# EAGLE library part 74AHCT132PW,118 (library 74AHCT132PW_118)
74AHC(T)132 - Quad 2-input NAND Schmitt trigger@en-us Source: Datasheet <https://assets.nexperia.com/documents/data-sheet/74AHC_AHCT132.pdf>
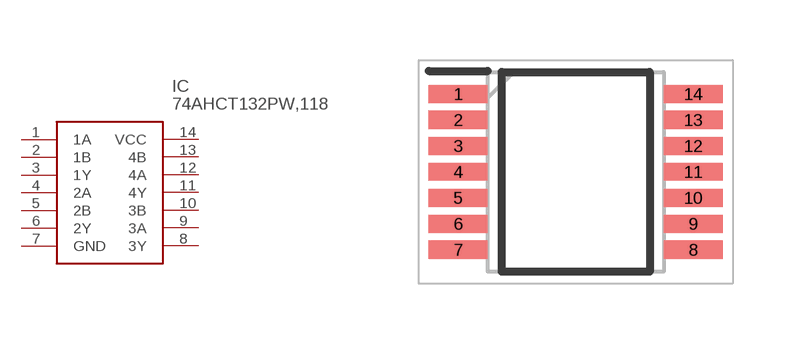
[diagram p0: symbol with the pads of SOP65P640X110-14N; footprint SOP65P640X110-14N]

Designator prefix IC

## 74AHCT132PW,118 (Description: 74AHC(T)132 - Quad 2-input NAND Schmitt trigger@en-us; Height: 1.1mm; Manufacturer_Name: Nexperia; Manufacturer_Part_Number: 74AHCT132PW,118; Mouser_Part_Number: 771-AHCT132PW118; Mouser_Price-Stock: https://www.mouser.co.uk/ProductDetail/Nexperia/74AHCT132PW118?qs=P62ublwmbi98EdtQFmm67Q%3D%3D)  [SOP65P640X110-14N]
1  1A
2  1B
3  1Y
4  2A
5  2B
6  2Y
7  GND
8  3Y
9  3A
10  3B
11  4Y
12  4A
13  4B
14  VCC

## Footprint SOP65P640X110-14N (pad centres in mm)
SOT402-1
smd 1.475 x 0.45: 1 -2.938,1.95; 2 -2.938,1.3; 3 -2.938,0.65; 4 -2.938,0; 5 -2.938,-0.65; 6 -2.938,-1.3; 7 -2.938,-1.95; 8 2.938,-1.95; 9 2.938,-1.3; 10 2.938,-0.65; 11 2.938,0; 12 2.938,0.65; 13 2.938,1.3; 14 2.938,1.95